# Altium schematic symbol library PT01-D120D-B502.SchLib: 1 symbol
Pins are listed as number, name and electrical type; pins without a type are passive.

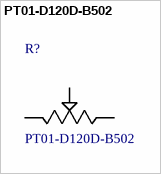
[diagram p0: symbol PT01-D120D-B502]

## PT01-D120D-B502
designator R?
SnapEDA_Link: https://www.snapeda.com/parts/PT01-D120D-B502/CUI+Devices/view-part/?ref=snap; Check_prices: https://www.snapeda.com/parts/PT01-D120D-B502/CUI+Devices/view-part/?ref=eda; Value: *
footprint *TRIM_PT01-D120D-B502
pins: 1, 2, 3